# EAGLE library part STEPSTICK_A4988 (library _MyComponents)
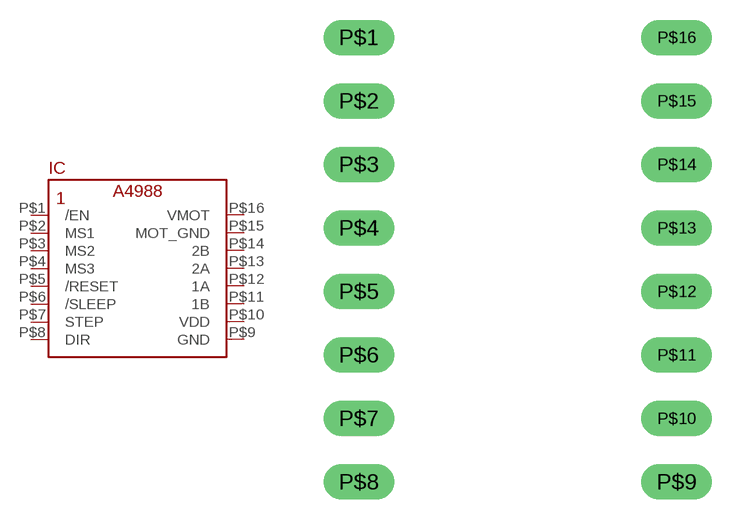
[diagram p15: symbol with the pads of STEPSTICK_A4988; footprint STEPSTICK_A4988]

Designator prefix IC

## STEPSTICK_A4988  [STEPSTICK_A4988]
P$1  /EN  in
P$2  MS1  in
P$3  MS2  in
P$4  MS3  in
P$5  /RESET  in
P$6  /SLEEP  in
P$7  STEP  in
P$8  DIR  in
P$9  GND  pwr
P$10  VDD  pwr
P$11  1B  out
P$12  1A  out
P$13  2A  out
P$14  2B  out
P$15  MOT_GND  pwr
P$16  VMOT  pwr

## Footprint STEPSTICK_A4988 (pad centres in mm)
drill 0.8 pad 1.422 long: P$1 0,0; P$2 0,-2.54; P$3 0,-5.08; P$4 0,-7.62; P$5 0,-10.16; P$6 0,-12.7; P$7 0,-15.24; P$8 0,-17.78; P$9 12.7,-17.78; P$10 12.7,-15.24; P$11 12.7,-12.7; P$12 12.7,-10.16; P$13 12.7,-7.62; P$14 12.7,-5.08; P$15 12.7,-2.54; P$16 12.7,0